# EAGLE library part DWM1001 (library DWM1001)
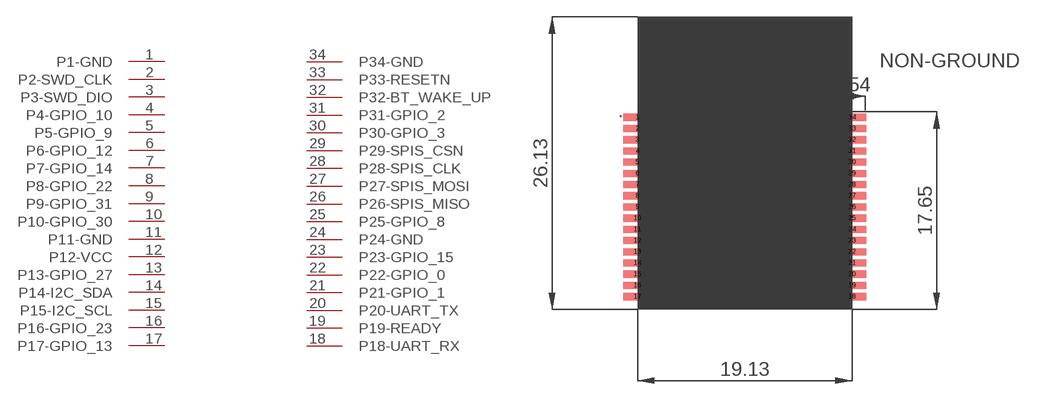
[diagram p0: symbol with the pads of DWM1001; footprint DWM1001]

Designator prefix -

## DWM1001  [DWM1001]
1  P1-GND  pwr
2  P2-SWD_CLK  in
3  P3-SWD_DIO
4  P4-GPIO_10
5  P5-GPIO_9
6  P6-GPIO_12
7  P7-GPIO_14
8  P8-GPIO_22
9  P9-GPIO_31
10  P10-GPIO_30
11  P11-GND  pwr
12  P12-VCC  pwr
13  P13-GPIO_27
14  P14-I2C_SDA
15  P15-I2C_SCL  out
16  P16-GPIO_23
17  P17-GPIO_13
18  P18-UART_RX  in
19  P19-READY  out
20  P20-UART_TX  out
21  P21-GPIO_1
22  P22-GPIO_0
23  P23-GPIO_15
24  P24-GND  pwr
25  P25-GPIO_8
26  P26-SPIS_MISO  in
27  P27-SPIS_MOSI  out
28  P28-SPIS_CLK  in
29  P29-SPIS_CSN  in
30  P30-GPIO_3
31  P31-GPIO_2
32  P32-BT_WAKE_UP  in
33  P33-RESETN  in
34  P34-GND  pwr

## Footprint DWM1001 (pad centres in mm)
smd 2.54 x 0.635: 1 0,17.15; 2 0,16.15; 3 0,15.15; 4 0,14.15; 5 0,13.15; 6 0,12.15; 7 0,11.15; 8 0,10.15; 9 0,9.15; 10 0,8.15; 11 0,7.15; 12 0,6.15; 13 0,5.15; 14 0,4.15; 15 0,3.15; 16 0,2.15; 17 0,1.15; 18 19.13,1.15; 19 19.13,2.15; 20 19.13,3.15; 21 19.13,4.15; 22 19.13,5.15; 23 19.13,6.15; 24 19.13,7.15; 25 19.13,8.15; 26 19.13,9.15; 27 19.13,10.15; 28 19.13,11.15; 29 19.13,12.15; 30 19.13,13.15; 31 19.13,14.15; 32 19.13,15.15; 33 19.13,16.15; 34 19.13,17.15